# EAGLE library part ZM1000 (library raspnixie)
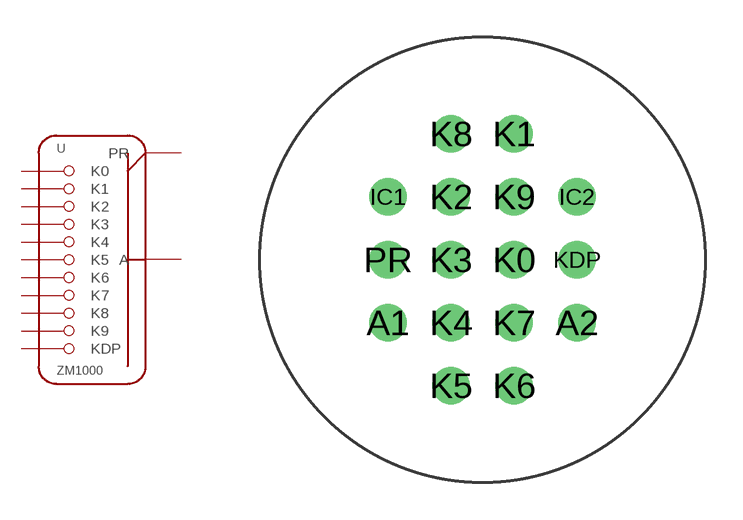
[diagram p0: symbol with the pads of ZM1000; footprint ZM1000]

Designator prefix U

## ZM1000  [ZM1000]
A1  A
A2  A
K0  K0
K1  K8
K2  K2
K3  K3
K4  K4
K5  K5
K6  K6
K7  K7
K8  K1
K9  K9
KDP  KDP
PR  PR

## Footprint ZM1000 (pad centres in mm)
the ZM1000 nixie tube. not many in the world.
drill 1.016: A1 -3.81,-2.54; A2 3.81,-2.54; IC1 -3.81,2.54; IC2 3.81,2.54; K0 1.27,0; K1 1.27,5.08; K2 -1.27,2.54; K3 -1.27,0; K4 -1.27,-2.54; K5 -1.27,-5.08; K6 1.27,-5.08; K7 1.27,-2.54; K8 -1.27,5.08; K9 1.27,2.54; KDP 3.81,0; PR -3.81,0